# Altium integrated library Motorola RF and IF Mixer.IntLib: 1 symbol
Pins are listed as number, name and electrical type; pins without a type are passive.

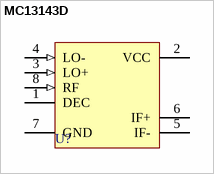
[diagram p0: symbol MC13143D]

## MC13143D
designator U?
Ultra Low-Power DC-2.4 GHz Linear Mixer; Published: 28-Feb-2003; LatestRevisionDate: 13-Apr-2006; LatestRevisionNote: IPC-7351 Footprint Added.; DatasheetVersion: 1999, Rev. 1; PackageVersion: Sep-1999; PackageReference: 751-06; Publisher: Altium Limited; PackageDescription: 8-Pin Small Outline Integrated Circuit 1.27 mm Pitch; Code_JEDEC: MS-012-AA; Code_IPC: SOIC127P600-8; ComponentLink1Description: Manufacturer Link; ComponentLink1URL: http://www.motorola.com/
footprint 751-06_N (SOIC, 8-Leads, Body 4.9x3.9mm, Pitch 1.27mm, IPC Medium Density)
footprint 751-06_L (SOIC, 8-Leads, Body 4.9x3.9mm, Pitch 1.27mm, IPC High Density)
footprint 751-06_M (SOIC, 8-Leads, Body 4.9x3.9mm, Pitch 1.27mm, IPC Low Density)
3D model 751-06 (8-Pin Small Outline Integrated Circuit 1.27 mm Pitch)
pins: 1 DEC, 2 VCC (power), 3 LO+ (in), 4 LO- (in), 5 IF- (oc), 6 IF+ (oc), 7 GND (power), 8 RF (in)